# Altium footprint library индуктивности.PcbLib: 9 footprints
Each footprint in its own frame and in the unit in brackets; x right, y up, seen from the top. Pads: shape width x height; smd on the part's side, far side on the other; paste and mask are expansions set on the pad; w line width, h text height; cw(c..) or ccw(c..) is an arc to the next point about the centre after c.
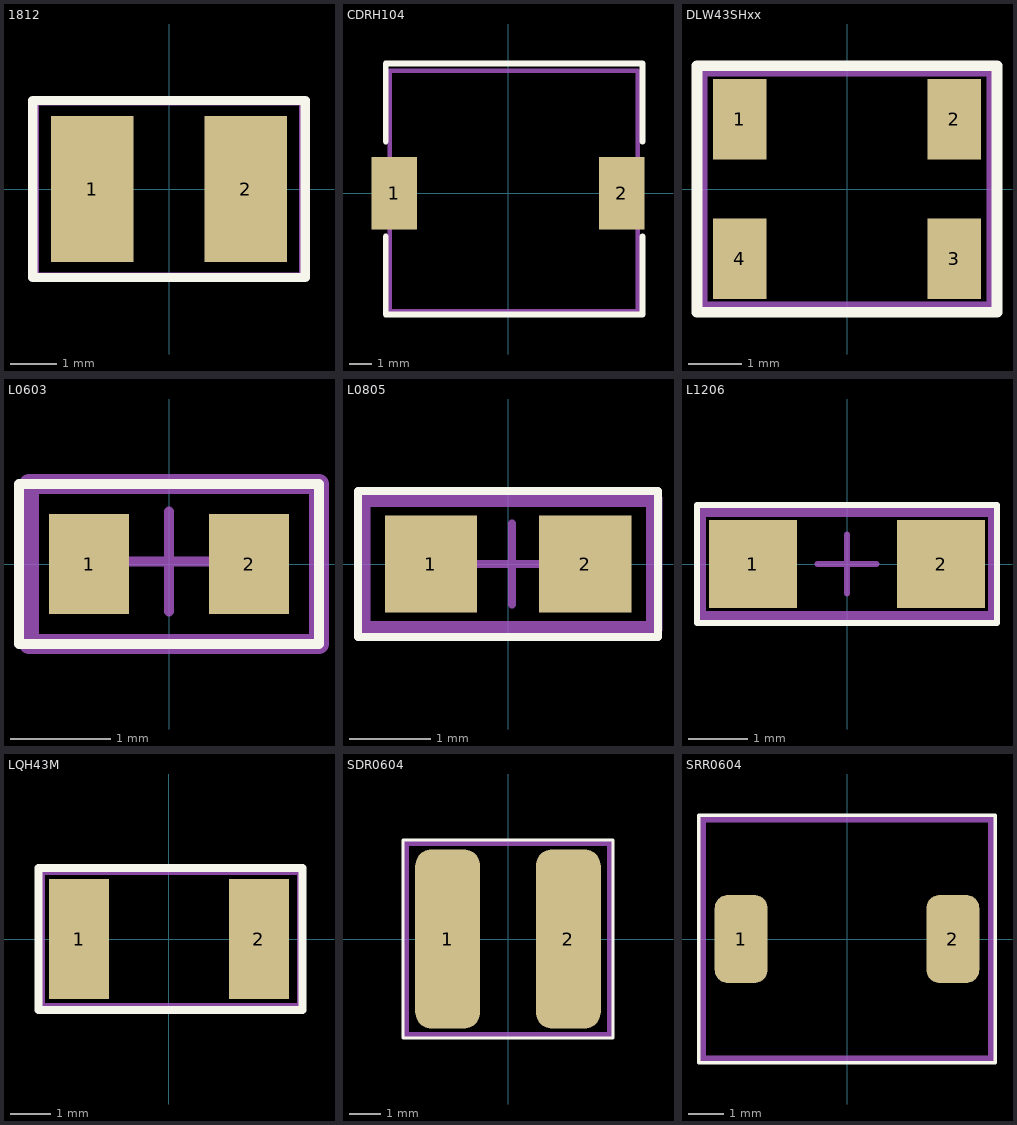
[diagram p0: the footprints below, top view; thin cyan lines are the x and y axes]

## 1812 [mm]
pads (2):
  rect 1.78x3.15 smd: 1(-1.651,0) 2(1.651,0)
Top Overlay:
  lines w0.2: -2.93,-1.905 2.93,-1.905 2.93,1.905 -2.93,1.905 -2.93,0 -2.93,-1.905
Top Assy:
  lines w0.2: -2.9,-1.9 2.9,-1.9 2.9,1.9 -2.9,1.9 -2.9,-1.9
  text ".Designator" at -2.5,-0.6 h1.52
3D body "1812.STEP": height 2.6, standoff 0, extent -2.3,-1.6 2.3,1.6

## CDRH104 [mm]
pads (2):
  rect 2x3.2 smd: 1(-5,0) 2(5,0)
Top Overlay:
  lines w0.254: -5.381,-1.905 -5.381,-5.334 5.922,-5.334 5.922,-1.905 ; -5.381,2.286 -5.381,5.715 -4.111,5.715 5.922,5.715 5.922,2.286
Top Assy:
  lines w0.2: -5.2,-5.2 5.7,-5.2 5.7,5.4 -5.2,5.4 -5.2,-5.2
  text ".Designator" at -2.9,0 h1.52
3D body "CDRH104.STEP": height 4, standoff 0, extent -4.982,-4.937 5.518,5.363

## DLW43SHxx [mm]
pads (4):
  rect 1x1.5 smd: 1(-2,1.3) 2(2,1.3) 3(2,-1.3) 4(-2,-1.3)
Top Overlay:
  lines w0.2: -2.8,-2.3 2.8,-2.3 2.8,2.3 -2.8,2.3 -2.8,-2.3
Top Assy:
  lines w0.2: -2.7,-2.2 2.7,-2.2 2.7,2.2 -2.7,2.2 -2.7,-2.2
  text ".Designator" at -2.3,-0.9 h1.52
3D body "DLW43S.step": height 2.6, standoff 0, extent -2.25,-1.6 2.25,1.6

## L0603 [mm]
pads (2):
  rect 0.8x1 smd: 1(-0.8,0) 2(0.8,0)
Top Overlay:
  lines w0.1: -1.5,-0.8 1.5,-0.8 1.5,0.8 -1.5,0.8 -1.5,-0.8
Top Assy:
  lines w0.2: -1.4,-0.8 1.5,-0.8 1.5,0.8 -1.4,0.8 -1.4,-0.8
  text ".Designator" at -1.3,-0.5 h1.52
Mechanical 15:
  lines w0.1: -0.527,0.025 0.473,0.025 ; -0.002,-0.475 -0.002,0.525
3D body "R0603.STEP": height 0.56, standoff 0, extent -0.863,-0.381 0.837,0.419

## L0805 [mm]
pads (2):
  rect 1.14x1.2 smd: 1(-0.953,0) 2(0.953,0)
Top Overlay:
  lines w0.1: -1.853,-0.9 1.847,-0.9 1.847,0.9 -1.853,0.9 -1.853,-0.9
Top Assy:
  lines w0.2: -1.8,-0.8 -1.8,0.8 1.8,0.8 1.8,-0.8 -1.8,-0.8
  text ".Designator" at -1.5,-0.5 h1.52
Mechanical 15:
  lines w0.1: -0.453,0 0.547,0 ; 0.048,-0.5 0.048,0.5
3D body "R0805.STEP": height 0.76, standoff 0, extent -1.163,-0.675 1.137,0.675

## L1206 [mm]
pads (2):
  rect 1.5x1.5 smd: 1(-1.6,0) 2(1.6,0)
Top Overlay:
  lines w0.1: -2.55,-1 2.55,-1 2.55,1 -2.55,1 -2.55,-1
Top Assy:
  lines w0.2: -2.5,-0.9 2.5,-0.9 2.5,0.9 -2.5,0.9 -2.5,-0.9
  text ".Designator" at -2.2,-0.6 h1.52
Mechanical 15:
  lines w0.1: -0.5,0 0.5,0 ; 0,-0.5 0,0.5
3D body "R1206.STEP": height 0.85, standoff 0, extent -1.675,-0.865 1.675,0.865

## LQH43M [mm]
pads (2):
  rect 1.5x3 smd: 1(-2.25,0) 2(2.25,0)
Top Overlay:
  lines w0.2: -3.266,-1.778 3.338,-1.778 3.338,1.778 -3.266,1.778 -3.266,-1.778
Top Assy:
  lines w0.2: -3.2,-1.7 3.3,-1.7 3.3,1.7 -3.2,1.7 -3.2,-1.7
  text ".Designator" at -2.8,-0.4 h1.52
3D body "LQH43M.STEP": height 2.6, standoff 0, extent -2.264,-1.6 2.336,1.6

## SDR0604 [mm]
pads (2):
  rrect50% 2.1x5.8 smd: 1(-1.95,0) 2(1.95,0)
Top Overlay:
  lines w0.1: -3.4,-3.2 3.4,-3.2 3.4,3.2 -3.4,3.2 -3.4,-3.2
Top Assy:
  lines w0.2: -3.3,-3.1 3.3,-3.1 3.3,3.1 -3.3,3.1 -3.3,-3.1
  text ".Designator" at -2.9,-1.8 h1.52
3D body "sdr0604.stp": height 4.8, standoff 0, extent -2.9,-2.9 2.9,2.9

## SRR0604 [mm]
pads (2):
  rrect50% 1.5x2.5 smd: 1(-3,0) 2(3,0)
Top Overlay:
  lines w0.1: -4.2,-3.5 4.2,-3.5 4.2,3.5 -4.2,3.5 -4.2,-3.5
Top Assy:
  lines w0.2: -4.1,-3.4 -4.1,3.4 4.1,3.4 4.1,-3.4 -4.1,-3.4
  text ".Designator" at -3,-0.4 h1.52
3D body "srr0604.stp": height 4.8, standoff 0, extent -3.25,-3.25 3.25,3.25